# EAGLE library part SWD-FLASH-HEADER (library Headers)
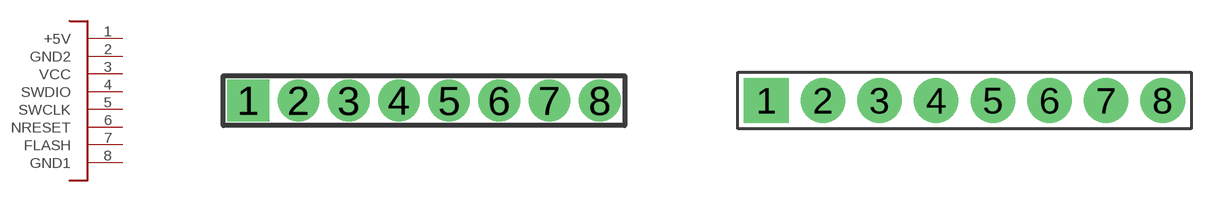
[diagram p5: symbol with the pads of HEADER-8X1-1.27; footprints HEADER-8X1-1.27, HEADER-8X1-2.54]

Designator prefix J

## SWD-FLASH-HEADER-1.27  [HEADER-8X1-1.27]
1  +5V
2  GND2
3  VCC
4  SWDIO
5  SWCLK
6  NRESET
7  FLASH
8  GND1

## SWD-FLASH-HEADER-2.54  [HEADER-8X1-2.54]
1  GND1
2  FLASH
3  NRESET
4  SWCLK
5  SWDIO
6  VCC
7  GND2
8  +5V

## Footprint HEADER-8X1-1.27 (pad centres in mm)
5 pin 0.1" header
drill 0.55 square: 1 -4.445,0
drill 0.55: 2 -3.175,0; 3 -1.905,0; 4 -0.635,0; 5 0.635,0; 6 1.905,0; 7 3.175,0; 8 4.445,0

## Footprint HEADER-8X1-2.54 (pad centres in mm)
5 pin 0.1" header
drill 1.05 pad 2 square: 1 -8.89,0
drill 1.05 pad 2: 2 -6.35,0; 3 -3.81,0; 4 -1.27,0; 5 1.27,0; 6 3.81,0; 7 6.35,0; 8 8.89,0